# Altium schematic symbol library SCH - ARM CORTEX - STM STM8L152K8Yx.SchLib: 1 symbol
Pins are listed as number, name and electrical type; pins without a type are passive.

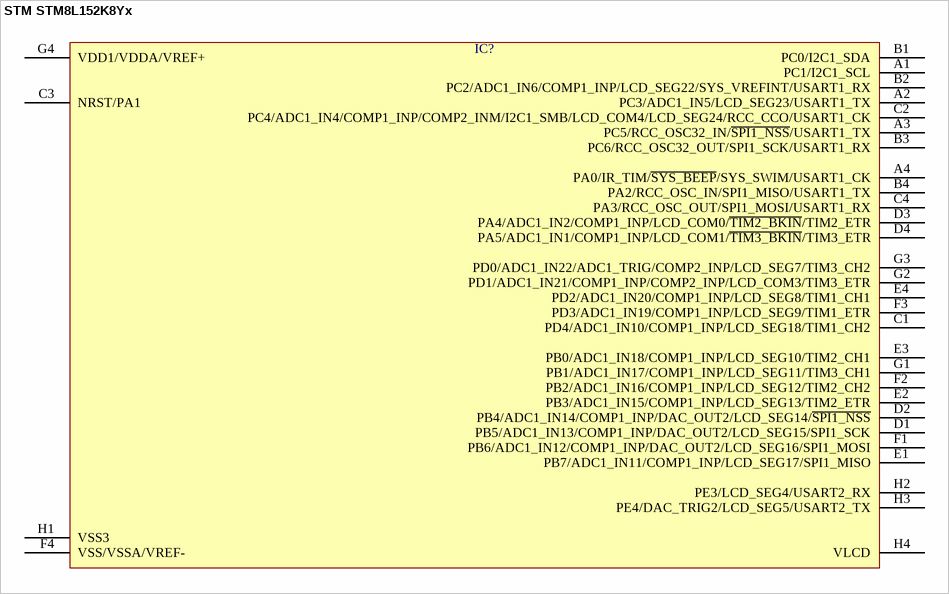
[diagram p0: symbol STM STM8L152K8Yx]

## STM STM8L152K8Yx
designator IC?  (value not drawn)
pins: A1 PC1/I2C1_SCL, A2 PC3/ADC1_IN5/LCD_SEG23/USART1_TX, A3 PC5/RCC_OSC32_IN/~{SPI1_NSS}/USART1_TX, A4 PA0/IR_TIM/~{SYS_BEEP}/SYS_SWIM/USART1_CK, B1 PC0/I2C1_SDA, B2 PC2/ADC1_IN6/COMP1_INP/LCD_SEG22/SYS_VREFINT/USART1_RX, B3 PC6/RCC_OSC32_OUT/SPI1_SCK/USART1_RX, B4 PA2/RCC_OSC_IN/SPI1_MISO/USART1_TX, C1 PD4/ADC1_IN10/COMP1_INP/LCD_SEG18/TIM1_CH2, C2 PC4/ADC1_IN4/COMP1_INP/COMP2_INM/I2C1_SMB/LCD_COM4/LCD_SEG24/RCC_CCO/USART1_CK, C3 NRST/PA1, C4 PA3/RCC_OSC_OUT/SPI1_MOSI/USART1_RX, D1 PB5/ADC1_IN13/COMP1_INP/DAC_OUT2/LCD_SEG15/SPI1_SCK, D2 PB4/ADC1_IN14/COMP1_INP/DAC_OUT2/LCD_SEG14/~{SPI1_NSS}, D3 PA4/ADC1_IN2/COMP1_INP/LCD_COM0/~{TIM2_BKIN}/TIM2_ETR, D4 PA5/ADC1_IN1/COMP1_INP/LCD_COM1/~{TIM3_BKIN}/TIM3_ETR, E1 PB7/ADC1_IN11/COMP1_INP/LCD_SEG17/SPI1_MISO, E2 PB3/ADC1_IN15/COMP1_INP/LCD_SEG13/TIM2_ETR, E3 PB0/ADC1_IN18/COMP1_INP/LCD_SEG10/TIM2_CH1, E4 PD2/ADC1_IN20/COMP1_INP/LCD_SEG8/TIM1_CH1, F1 PB6/ADC1_IN12/COMP1_INP/DAC_OUT2/LCD_SEG16/SPI1_MOSI, F2 PB2/ADC1_IN16/COMP1_INP/LCD_SEG12/TIM2_CH2, F3 PD3/ADC1_IN19/COMP1_INP/LCD_SEG9/TIM1_ETR, F4 VSS/VSSA/VREF-, G1 PB1/ADC1_IN17/COMP1_INP/LCD_SEG11/TIM3_CH1, G2 PD1/ADC1_IN21/COMP1_INP/COMP2_INP/LCD_COM3/TIM3_ETR, G3 PD0/ADC1_IN22/ADC1_TRIG/COMP2_INP/LCD_SEG7/TIM3_CH2, G4 VDD1/VDDA/VREF+, H1 VSS3, H2 PE3/LCD_SEG4/USART2_RX, H3 PE4/DAC_TRIG2/LCD_SEG5/USART2_TX, H4 VLCD